# EAGLE library part 74LS54N_D (library EW_IC_74_Logic)
4-wide And-Or-Invert. Category: Gates Manufacturer: Generic
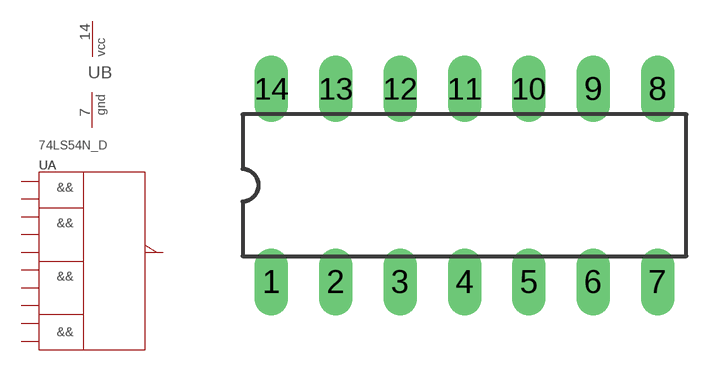
[diagram p241: symbol with the pads of DIL14; footprint DIL14]

Designator prefix U; gates A=7454_LS_AND-OR-INVERT B=PWRN

## 74LS54N_D  [DIL14]
1  A:A  pwr
2  A:B  pwr
3  A:C  pwr
4  A:D  pwr
5  A:E  pwr
6  A:Y  pwr
7  B:GND  pwr
9  A:F  pwr
10  A:G  pwr
11  A:H  pwr
12  A:I  pwr
13  A:J  pwr
14  B:VCC  pwr

## Footprint DIL14 (pad centres in mm)
SOCKET Dual In Line
drill 0.813 long: 1 -7.62,-3.81; 2 -5.08,-3.81; 3 -2.54,-3.81; 4 0,-3.81; 5 2.54,-3.81; 6 5.08,-3.81; 7 7.62,-3.81; 8 7.62,3.81; 9 5.08,3.81; 10 2.54,3.81; 11 0,3.81; 12 -2.54,3.81; 13 -5.08,3.81; 14 -7.62,3.81